# Altium footprint library LVPowerModule.PcbLib: 22 footprints (part 2 of 2)
Each footprint in its own frame and in the unit in brackets; x right, y up, seen from the top. Pads: shape width x height; smd on the part's side, far side on the other; paste and mask are expansions set on the pad; w line width, h text height; cw(c..) or ccw(c..) is an arc to the next point about the centre after c.
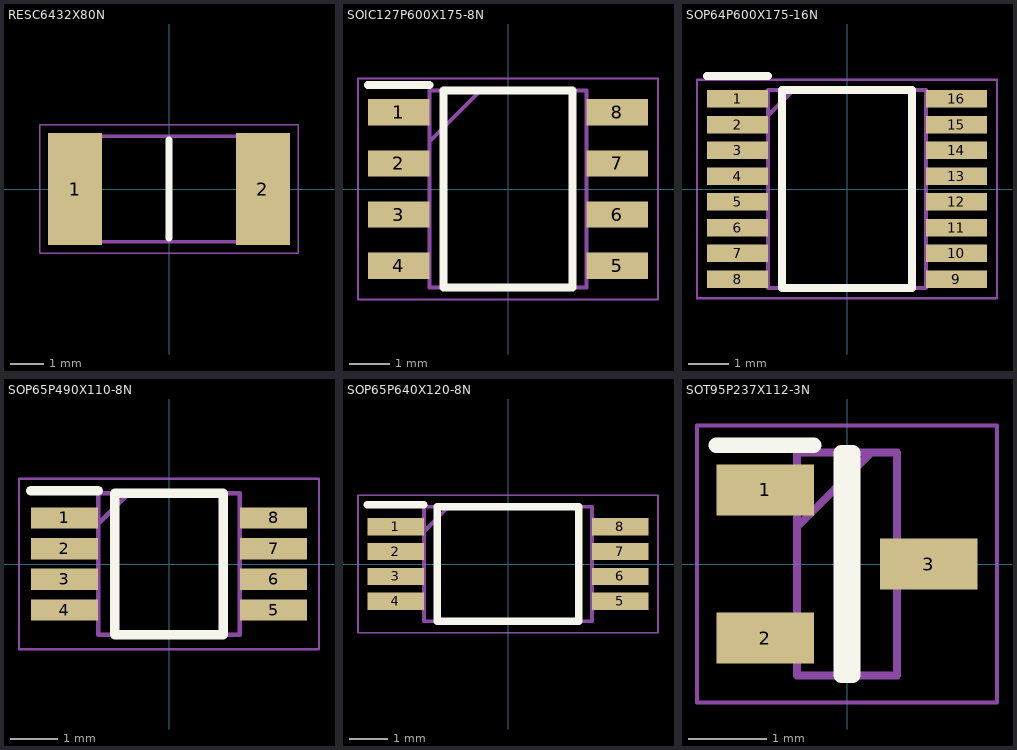
[diagram p1: the footprints below, top view; thin cyan lines are the x and y axes]

## RESC6432X80N [mm]
pads (2):
  rect 1.65x3.4 smd: 1(-2.85,0) 2(2.85,0)
Top Overlay:
  lines w0.2: 0,-1.5 0,1.5
Mechanical 13:
  lines w0.1: -3.2,-1.6 3.2,-1.6 3.2,1.6 -3.2,1.6 -3.2,-1.6
Mechanical 15:
  lines w0.05: -3.925,-1.95 3.925,-1.95 3.925,1.95 -3.925,1.95 -3.925,-1.95
3D body "CRF2512-FZ-R005ELF.stp": height 0.8, standoff 0, extent -3.2,-1.6 3.2,1.6

## SOIC127P600X175-8N [mm]
pads (8):
  rect 1.525x0.65 smd: 1(-2.712,1.905) 2(-2.712,0.635) 3(-2.712,-0.635) 4(-2.712,-1.905) 5(2.712,-1.905) 6(2.712,-0.635) 7(2.712,0.635) 8(2.712,1.905)
Top Overlay:
  lines w0.2: -3.475,2.58 -1.95,2.58 ; -1.6,-2.45 -1.6,2.45 1.6,2.45 1.6,-2.45 -1.6,-2.45
Mechanical 13:
  lines w0.1: -1.95,1.18 -0.68,2.45 ; -1.95,-2.45 -1.95,2.45 1.95,2.45 1.95,-2.45 -1.95,-2.45
Mechanical 15:
  lines w0.05: -3.725,-2.75 -3.725,2.75 3.725,2.75 3.725,-2.75 -3.725,-2.75
3D body "NE555DR.stp": height 1.75, standoff 0, extent -3,-2.45 3,2.45

## SOP64P600X175-16N [mm]
pads (16):
  rect 1.5x0.435 smd: 1(-2.7,2.222) 2(-2.7,1.588) 3(-2.7,0.952) 4(-2.7,0.318) 5(-2.7,-0.318) 6(-2.7,-0.952) 7(-2.7,-1.588) 8(-2.7,-2.222) 9(2.7,-2.222) 10(2.7,-1.588) 11(2.7,-0.952) 12(2.7,-0.318) 13(2.7,0.318) 14(2.7,0.952) 15(2.7,1.588) 16(2.7,2.222)
Top Overlay:
  lines w0.2: -3.45,2.79 -1.95,2.79 ; -1.6,-2.445 1.6,-2.445 1.6,2.445 -1.6,2.445 -1.6,-2.445
Mechanical 13:
  lines w0.1: -1.95,1.81 -1.315,2.445 ; -1.95,-2.445 1.95,-2.445 1.95,2.445 -1.95,2.445 -1.95,-2.445
Mechanical 15:
  lines w0.05: -3.7,-2.695 3.7,-2.695 3.7,2.695 -3.7,2.695 -3.7,-2.695
3D body "SI8640EB-B-IU.stp": height 1.75, standoff 0, extent -3,-2.445 3,2.445

## SOP65P490X110-8N [mm]
pads (8):
  rect 1.425x0.45 smd: 1(-2.212,0.975) 2(-2.212,0.325) 3(-2.212,-0.325) 4(-2.212,-0.975) 5(2.212,-0.975) 6(2.212,-0.325) 7(2.212,0.325) 8(2.212,0.975)
Top Overlay:
  lines w0.2: -2.925,1.55 -1.5,1.55 ; -1.15,-1.5 -1.15,1.5 1.15,1.5 1.15,-1.5 -1.15,-1.5
Mechanical 13:
  lines w0.1: -1.5,0.85 -0.85,1.5 ; -1.5,-1.5 -1.5,1.5 1.5,1.5 1.5,-1.5 -1.5,-1.5
Mechanical 15:
  lines w0.05: -3.175,-1.801 -3.175,1.801 3.175,1.801 3.175,-1.801 -3.175,-1.801
3D body "LTC4372CMS8#TRPBF.stp": height 1.1, standoff 0, extent -2.45,-1.5 2.45,1.5

## SOP65P640X120-8N [mm]
pads (8):
  rect 1.475x0.45 smd: 1(-2.938,0.975) 2(-2.938,0.325) 3(-2.938,-0.325) 4(-2.938,-0.975) 5(2.938,-0.975) 6(2.938,-0.325) 7(2.938,0.325) 8(2.938,0.975)
Top Overlay:
  lines w0.2: -3.675,1.55 -2.2,1.55 ; -1.85,-1.5 1.85,-1.5 1.85,1.5 -1.85,1.5 -1.85,-1.5
Mechanical 13:
  lines w0.1: -2.2,0.85 -1.55,1.5 ; -2.2,-1.5 2.2,-1.5 2.2,1.5 -2.2,1.5 -2.2,-1.5
Mechanical 15:
  lines w0.05: -3.925,-1.8 3.925,-1.8 3.925,1.8 -3.925,1.8 -3.925,-1.8
3D body "MCP47FEB02A0-E_ST.stp": height 1.2, standoff 0, extent -3.2,-1.5 3.2,1.5

## SOT95P237X112-3N [mm]
pads (3):
  rect 1.25x0.65 smd: 1(-1.05,0.95) 2(-1.05,-0.95) 3(1.05,0)
Top Overlay:
  lines w0.2: -1.675,1.525 -0.425,1.525 ; -0.075,-1.43 0.075,-1.43 0.075,1.43 -0.075,1.43 -0.075,-1.43
Mechanical 13:
  lines w0.1: -0.64,0.48 0.31,1.43 ; -0.64,-1.43 0.64,-1.43 0.64,1.43 -0.64,1.43 -0.64,-1.43
Mechanical 15:
  lines w0.05: -1.925,-1.775 1.925,-1.775 1.925,1.775 -1.925,1.775 -1.925,-1.775
3D body "MCP1799T-3302H_TT.stp": height 1.12, standoff 0, extent -1.185,-1.43 1.185,1.43